# Altium footprint library PcbLib1.PcbLib: 6 footprints
Each footprint in its own frame and in the unit in brackets; x right, y up, seen from the top. Pads: shape width x height; smd on the part's side, far side on the other; paste and mask are expansions set on the pad; w line width, h text height; cw(c..) or ccw(c..) is an arc to the next point about the centre after c.
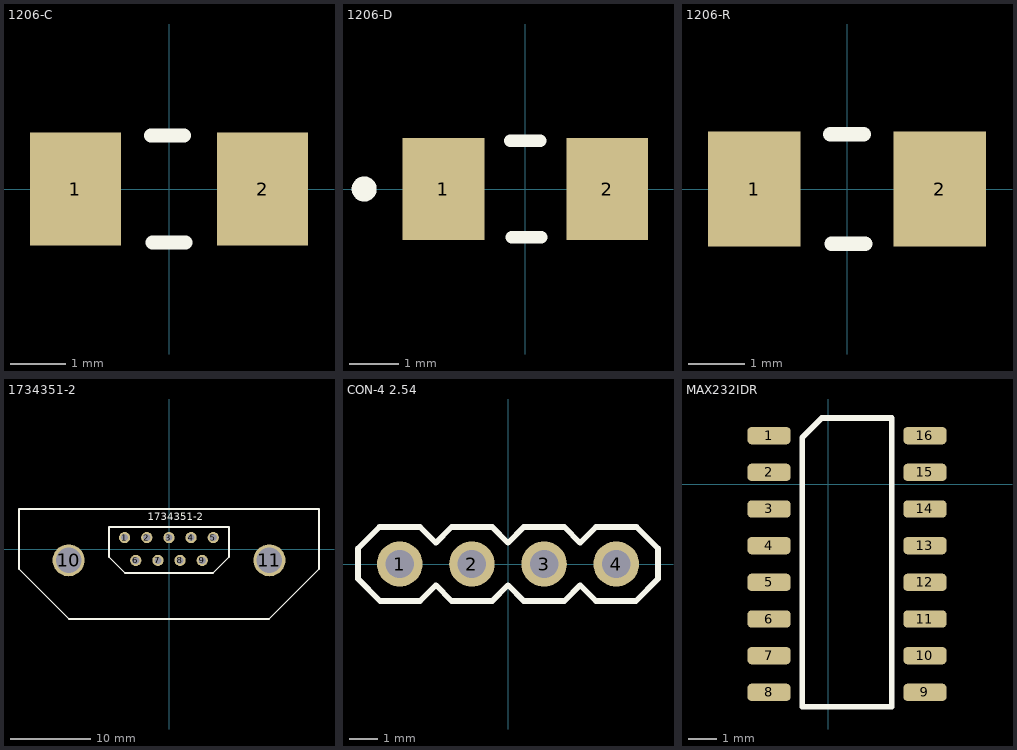
[diagram p0: the footprints below, top view; thin cyan lines are the x and y axes]

## 1206-C [mm]
pads (2):
  rect 1.65x2.05 smd: 1(-1.7,0) 2(1.7,0)
Top Overlay:
  lines w0.254: -0.326,0.975 0.274,0.975 ; -0.3,-0.975 0.299,-0.975

## 1206-D [mm]
pads (2):
  rect 1.65x2.05 smd: 1(-1.651,0) 2(1.651,0)
Top Overlay:
  circle w0.254: c-3.25,0 r0.125
  lines w0.254: -0.3,0.975 0.3,0.975 ; -0.275,-0.975 0.325,-0.975

## 1206-R [mm]
pads (2):
  rect 1.65x2.05 smd: 1(-1.651,0) 2(1.651,0)
Top Overlay:
  lines w0.254: -0.3,0.975 0.3,0.975 ; -0.275,-0.975 0.325,-0.975

## 1734351-2 [mm]
pads (11):
  round 1.4 hole 0.9: 1(-5.545,1.42) 2(-2.775,1.42) 3(-0.005,1.42) 4(2.765,1.42) 5(5.535,1.42) 6(-4.155,-1.42) 7(-1.385,-1.42) 8(1.385,-1.42) 9(4.155,-1.42)
  round 4 hole 3.2: 10(-12.555,-1.42) 11(12.555,-1.42)
Top Overlay:
  lines w0.2: -7.5,2.75 -7.5,-1 -5.5,-3 5.5,-3 7.5,-1 7.5,2.75 -7.5,2.75 ; -7.5,2.75 -7.5,2.75 ; -18.75,-2.5 -18.75,5 18.75,5 18.75,-2.5 12.5,-8.75 -12.5,-8.75 -18.75,-2.5
  text "1734351-2" at -2.625,3.3 h1.52

## CON-4 2.54 [mm]
pads (4):
  round 1.6 hole 1: 1(-3.81,0) 2(-1.27,0) 3(1.27,0) 4(3.81,0)
Top Overlay:
  lines w0.2: -2.542,0.743 -1.985,1.3 -0.555,1.3 0,0.745 ; -2.54,-0.745 -1.985,-1.3 -0.555,-1.3 0.002,-0.743 ; -2.54,0.745 -3.095,1.3 -4.525,1.3 -5.28,0.545 -5.28,-0.52 -4.5,-1.3 -3.095,-1.3 -2.538,-0.743 ; -0.002,0.743 0.555,1.3 1.985,1.3 2.54,0.745 ; 0,-0.745 0.555,-1.3 1.985,-1.3 2.542,-0.743 ; 2.538,0.743 3.095,1.3 4.525,1.3 5.28,0.545 5.28,-0.52 4.5,-1.3 3.095,-1.3 2.54,-0.745

## MAX232IDR [mm]
pads (16):
  rrect50% 1.5x0.6 smd: 1(-2.05,1.69) 2(-2.05,0.42) 3(-2.05,-0.85) 4(-2.05,-2.12) 5(-2.05,-3.39) 6(-2.05,-4.66) 7(-2.05,-5.93) 8(-2.05,-7.2) 9(3.35,-7.2) 10(3.35,-5.93) 11(3.35,-4.66) 12(3.35,-3.39) 13(3.35,-2.12) 14(3.35,-0.85) 15(3.35,0.42) 16(3.35,1.69)
Top Overlay:
  lines w0.2: -0.9,-7.7 2.2,-7.7 2.2,2.3 -0.225,2.3 -0.9,1.625 -0.9,-7.7